# Altium footprint library DIMNodeCN25_08_20121.PcbLib: 43 footprints (part 3 of 3)
Each footprint in its own frame and in the unit in brackets; x right, y up, seen from the top. Pads: shape width x height; smd on the part's side, far side on the other; paste and mask are expansions set on the pad; w line width, h text height; cw(c..) or ccw(c..) is an arc to the next point about the centre after c.
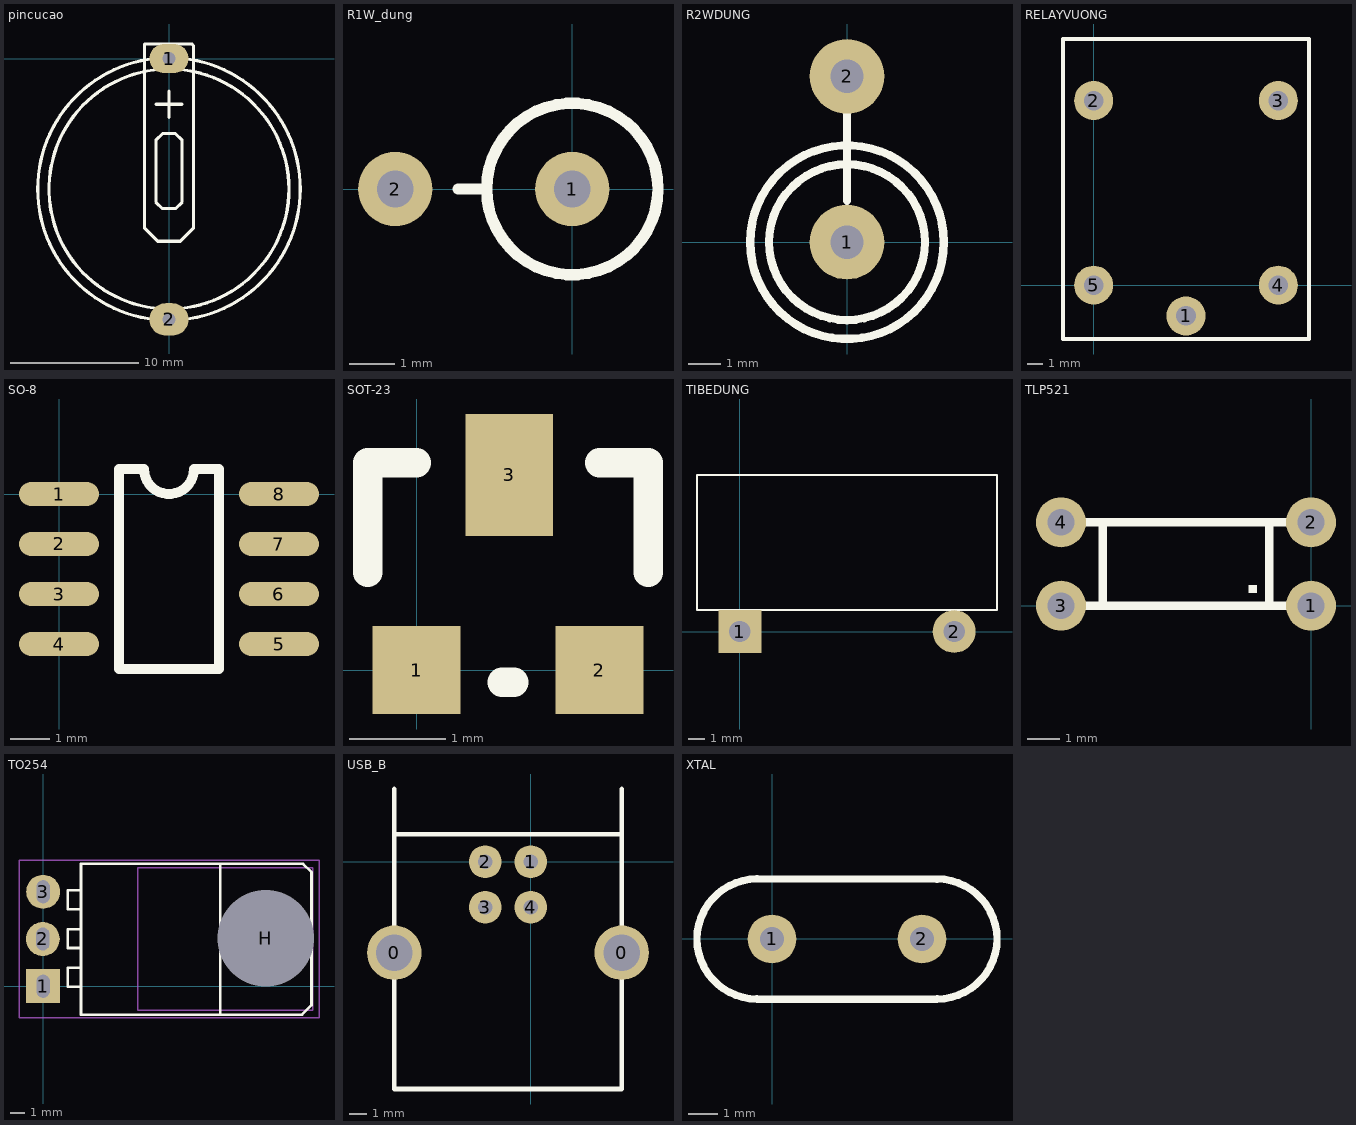
[diagram p2: the footprints below, top view; thin cyan lines are the x and y axes]

## pincucao [mil]
pads (2):
  oval 120x90 hole 40: 1(0,0)
  oval 120x100 hole 40: 2(0,-800)
Top Overlay:
  circle w10: c0,-400 r402.65
  circle w10: c0,-400 r367.97
  lines w10: -40,-140 40,-140 ; 0,-180 0,-100 ; 25,-560 -35,-560 ; -35,-560 -75,-520 -75,-5 -75,45 70,45 75,40 75,-5 75,-520 35,-560 -35,-560 ; -40,-440 -40,-250 -20,-230 20,-230 40,-250 40,-440 20,-460 10,-460 -20,-460 -40,-440

## R1W_dung [mil]
pads (2):
  round 65 hole 32: 1(0,0) 2(-155,0)
Top Overlay:
  circle w10: c0,0 r75
  lines w10: -100,0 -75,0

## R2WDUNG [mil]
pads (2):
  round 90 hole 40: 1(0,0) 2(0,200)
Top Overlay:
  circle w10: c0,0 r116.73
  circle w10: c0,0 r93.94
  lines w10: 0,50 0,200

## RELAYVUONG [mm]
pads (5):
  round 2.54 hole 1.27: 1(6,-2) 2(0,12) 3(12,12) 4(12,0) 5(0,0)
Top Overlay:
  lines w0.254: -2,-3.5 -2,16 14,16 14,-3.5 -2,-3.5

## SO-8 [mil]
pads (8):
  oval 80x24 smd: 1(0,0) 2(0,-50) 3(0,-100) 4(0,-150) 5(220,-150) 6(220,-100) 7(220,-50) 8(220,0)
Top Overlay:
  lines w10: 60,-175 60,25 85,25 ccw(c110,25) 135,25 160,25 160,-175 60,-175

## SOT-23 [mil]
pads (3):
  rect 36x36 smd: 1(0,0) 2(75,0)
  rect 36x50 smd: 3(38,80)
Top Overlay:
  lines w12: -20,40 -20,85 0,85 ; 35,-5 40,-5 ; 75,85 95,85 95,40

## TIBEDUNG [mil]
pads (2):
  rect 100x100 hole 50: 1(0,0)
  round 100 hole 50: 2(500,0)
Top Overlay:
  lines w5: -100,50 -100,365 600,365 600,50 -100,50

## TLP521 [mil]
pads (4):
  round 60 hole 32: 1(0,0) 2(0,100) 3(-300,0) 4(-300,100)
Top Overlay:
  region: -65,25 -75,25 -75,15 -65,15
  lines w10: -270,0 -50,0 ; -270,100 -250,100 ; -250,0 -250,100 ; -30,0 -50,0 ; -30,100 -50,100 ; -250,100 -50,100 ; -50,0 -50,100

## TO254 [mil] "D-PAK, 4-Leads, Body 8x9.4mm, Pitch 2.54mm, Lead Span 10.6mm, IPC Low Density"
height 80.71
pads (4):
  rect 90x90 hole 35 slot 60 at 90 deg: 1(0,0)
  round 90 hole 35 slot 60 at 90 deg: 2(-0.94,125) 3(0,250)
  round 236.22 hole 255.91: H(589.06,127)
Top Overlay:
  lines w7: 94.06,151 65,151 65,101 96.06,101 ; 94.06,254 65,254 65,204 96.06,204 ; 96.06,49 65,49 65,-1 98.06,-1 99.06,0 ; 465.06,324 688.06,324 710.06,302 710.06,-50 685.06,-75 646.06,-75 ; 468.06,-75 649.06,-75 ; 468.06,324 100.06,324 100.06,-75 469.06,-75 469.06,323
Mechanical 13:
  lines w3.94: 250,-62.99 713.1,-62.99 713.1,312.99 250,312.99 250,-62.99
Mechanical 15:
  lines w3.94: -63.94,-83.66 730,-83.66 730,333.66 -63.94,333.66 -63.94,-83.66
3D body: height 80.71, standoff 0, extent 250,-62.99 713.1,312.99

## USB_B [mil]
pads (6):
  round 120 hole 80: 0(-300,-200) 0(200,-200)
  round 72 hole 32: 1(0,0) 2(-100,0) 3(-100,-100) 4(0,-100)
Top Overlay:
  lines w10: -300,60 200,60 ; -300,160 -300,-500 200,-500 200,160

## XTAL [mil]
pads (2):
  round 65 hole 32: 1(0,0) 2(200,0)
Top Overlay:
  lines w10: 220,-80 ccw(c220,0) 220,80 ; 220,-80 ccw(c220,0) 220,80 ; 220,-80 -20,-80 cw(c-20,0) -20,80 220,80